# Altium schematic symbol library STM32.SchLib: 5 symbols
Pins are listed as number, name and electrical type; pins without a type are passive.

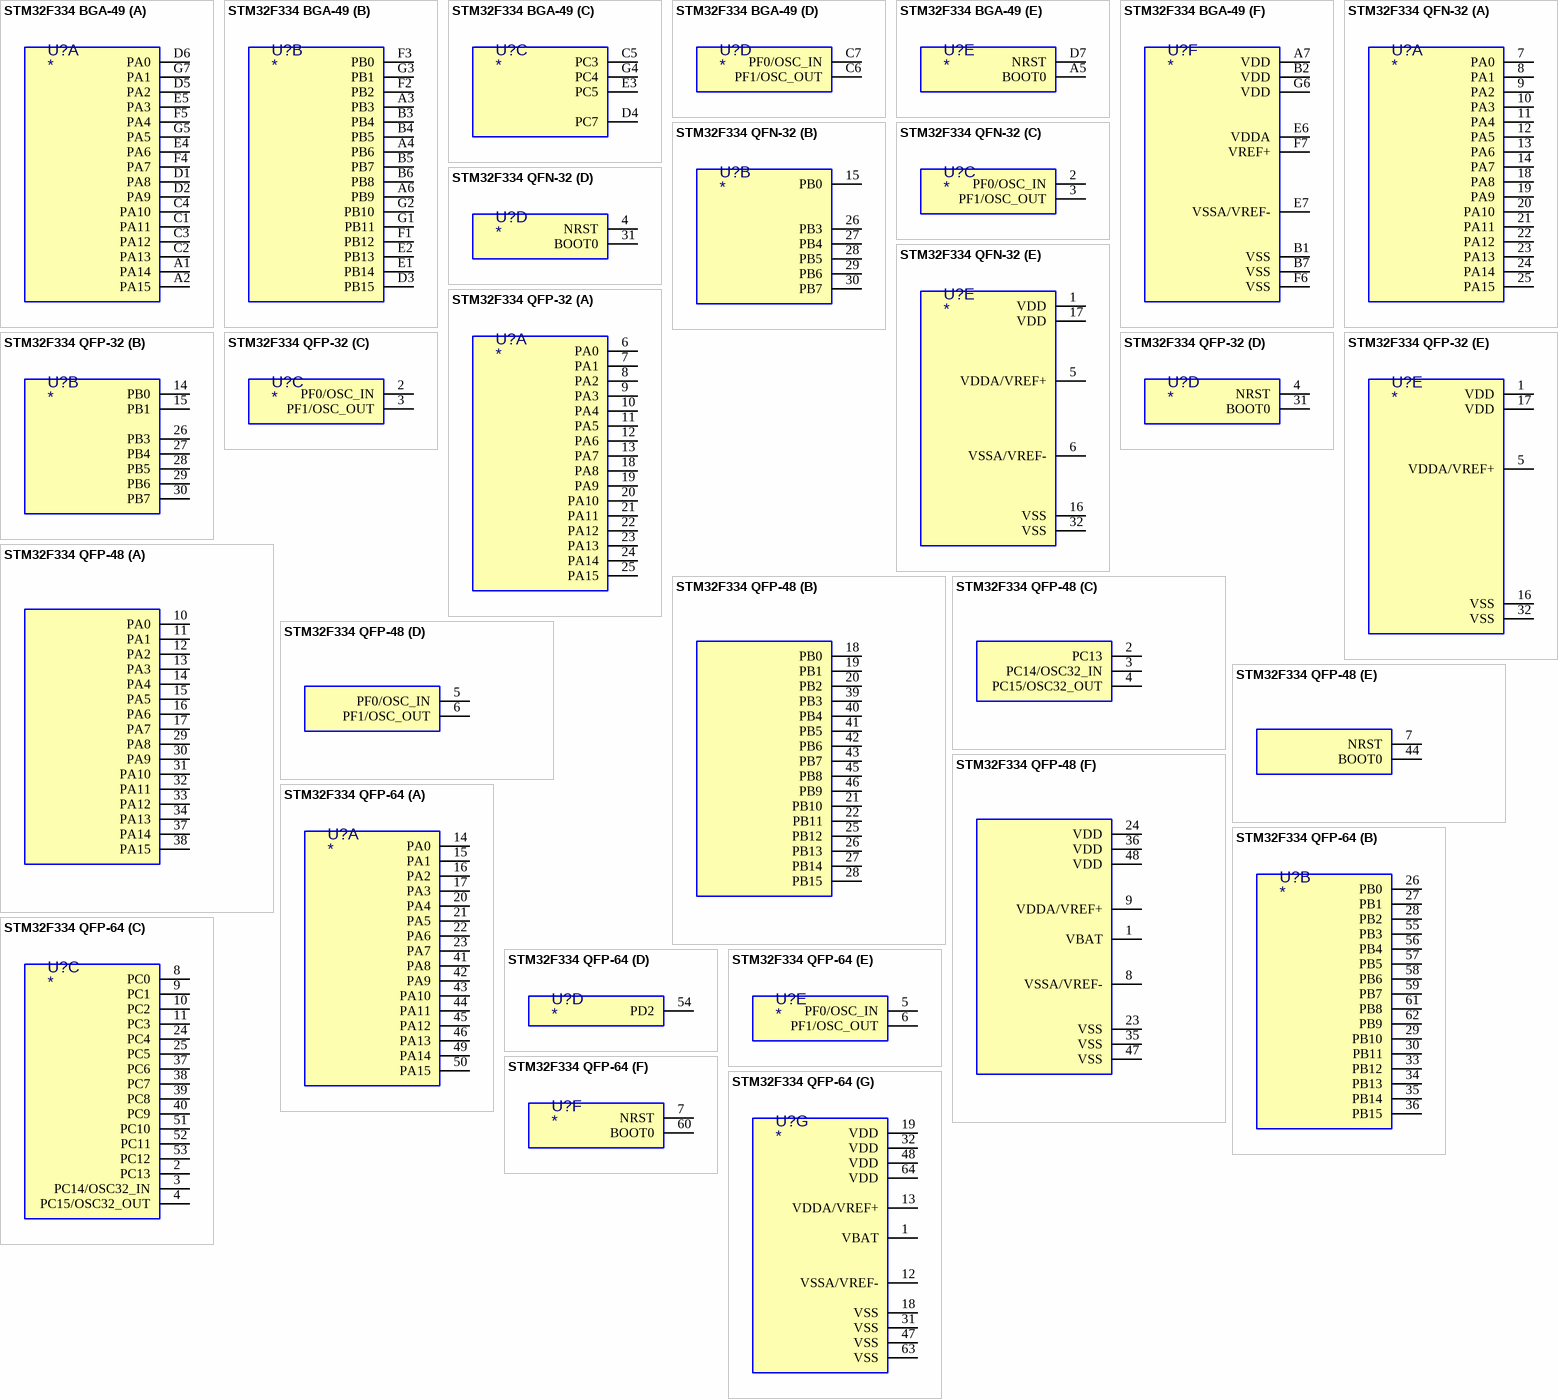
[diagram p0: symbols STM32F334 BGA-49 to STM32F334 QFP-64]

## STM32F334 BGA-49
designator U?
part A pins: A1 PA14, A2 PA15, C1 PA11, C2 PA13, C3 PA12, C4 PA10, D1 PA8, D2 PA9, D5 PA2, D6 PA0, E4 PA6, E5 PA3, F4 PA7, F5 PA4, G5 PA5, G7 PA1
part B pins: A3 PB3, A4 PB6, A6 PB9, B3 PB4, B4 PB5, B5 PB7, B6 PB8, D3 PB15, E1 PB14, E2 PB13, F1 PB12, F2 PB2, F3 PB0, G1 PB11, G2 PB10, G3 PB1
part C pins: C5 PC3, D4 PC7, E3 PC5, G4 PC4
part D pins: C6 PF1/OSC_OUT, C7 PF0/OSC_IN
part E pins: A5 BOOT0, D7 NRST
part F pins: A7 VDD, B1 VSS, B2 VDD, B7 VSS, E6 VDDA, E7 VSSA/VREF-, F6 VSS, F7 VREF+, G6 VDD

## STM32F334 QFN-32
designator U?
part A pins: 7 PA0, 8 PA1, 9 PA2, 10 PA3, 11 PA4, 12 PA5, 13 PA6, 14 PA7, 18 PA8, 19 PA9, 20 PA10, 21 PA11, 22 PA12, 23 PA13, 24 PA14, 25 PA15
part B pins: 15 PB0, 26 PB3, 27 PB4, 28 PB5, 29 PB6, 30 PB7
part C pins: 2 PF0/OSC_IN, 3 PF1/OSC_OUT
part D pins: 4 NRST, 31 BOOT0
part E pins: 1 VDD, 5 VDDA/VREF+, 6 VSSA/VREF-, 16 VSS, 17 VDD, 32 VSS

## STM32F334 QFP-32
designator U?
part A pins: 6 PA0, 7 PA1, 8 PA2, 9 PA3, 10 PA4, 11 PA5, 12 PA6, 13 PA7, 18 PA8, 19 PA9, 20 PA10, 21 PA11, 22 PA12, 23 PA13, 24 PA14, 25 PA15
part B pins: 14 PB0, 15 PB1, 26 PB3, 27 PB4, 28 PB5, 29 PB6, 30 PB7
part C pins: 2 PF0/OSC_IN, 3 PF1/OSC_OUT
part D pins: 4 NRST, 31 BOOT0
part E pins: 1 VDD, 5 VDDA/VREF+, 16 VSS, 17 VDD, 32 VSS

## STM32F334 QFP-48
designator U?
part A pins: 10 PA0, 11 PA1, 12 PA2, 13 PA3, 14 PA4, 15 PA5, 16 PA6, 17 PA7, 29 PA8, 30 PA9, 31 PA10, 32 PA11, 33 PA12, 34 PA13, 37 PA14, 38 PA15
part B pins: 18 PB0, 19 PB1, 20 PB2, 21 PB10, 22 PB11, 25 PB12, 26 PB13, 27 PB14, 28 PB15, 39 PB3, 40 PB4, 41 PB5, 42 PB6, 43 PB7, 45 PB8, 46 PB9
part C pins: 2 PC13, 3 PC14/OSC32_IN, 4 PC15/OSC32_OUT
part D pins: 5 PF0/OSC_IN, 6 PF1/OSC_OUT
part E pins: 7 NRST, 44 BOOT0
part F pins: 1 VBAT, 8 VSSA/VREF-, 9 VDDA/VREF+, 23 VSS, 24 VDD, 35 VSS, 36 VDD, 47 VSS, 48 VDD

## STM32F334 QFP-64
designator U?
part A pins: 14 PA0, 15 PA1, 16 PA2, 17 PA3, 20 PA4, 21 PA5, 22 PA6, 23 PA7, 41 PA8, 42 PA9, 43 PA10, 44 PA11, 45 PA12, 46 PA13, 49 PA14, 50 PA15
part B pins: 26 PB0, 27 PB1, 28 PB2, 29 PB10, 30 PB11, 33 PB12, 34 PB13, 35 PB14, 36 PB15, 55 PB3, 56 PB4, 57 PB5, 58 PB6, 59 PB7, 61 PB8, 62 PB9
part C pins: 2 PC13, 3 PC14/OSC32_IN, 4 PC15/OSC32_OUT, 8 PC0, 9 PC1, 10 PC2, 11 PC3, 24 PC4, 25 PC5, 37 PC6, 38 PC7, 39 PC8, 40 PC9, 51 PC10, 52 PC11, 53 PC12
part D pins: 54 PD2
part E pins: 5 PF0/OSC_IN, 6 PF1/OSC_OUT
part F pins: 7 NRST, 60 BOOT0
part G pins: 1 VBAT, 12 VSSA/VREF-, 13 VDDA/VREF+, 18 VSS, 19 VDD, 31 VSS, 32 VDD, 47 VSS, 48 VDD, 63 VSS, 64 VDD